# Altium footprint library QFP80-20X20_P64.PcbLib: 3 footprints
Each footprint in its own frame and in the unit in brackets; x right, y up, seen from the top. Pads: shape width x height; smd on the part's side, far side on the other; paste and mask are expansions set on the pad; w line width, h text height; cw(c..) or ccw(c..) is an arc to the next point about the centre after c.
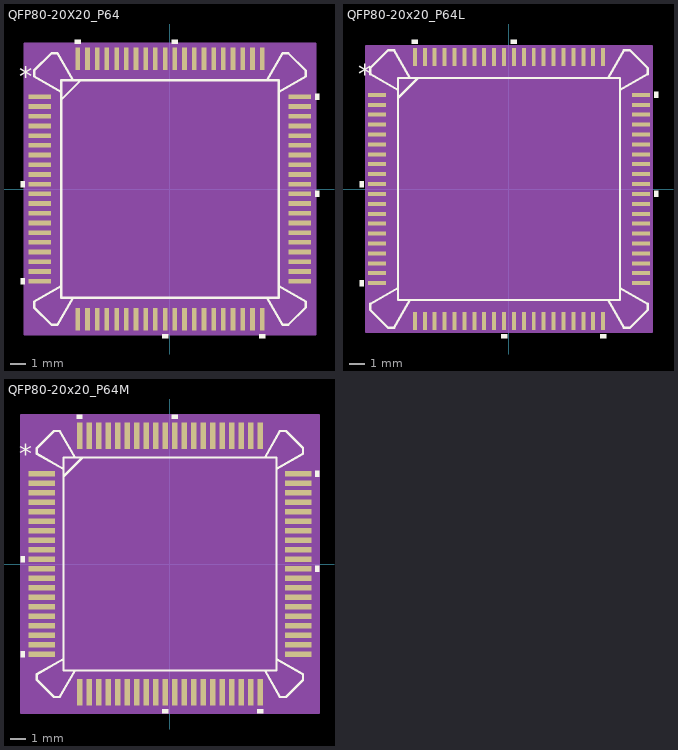
[diagram p0: the footprints below, top view; thin cyan lines are the x and y axes]

## QFP80-20X20_P64 [mil]
pads (80):
  rect 58x12 smd: 1(-335,237.5) 2(-335,212.5) 3(-335,187.5) 4(-335,162.5) 5(-335,137.5) 6(-335,112.5) 7(-335,87.5) 8(-335,62.5) 9(-335,37.5) 10(-335,12.5) 11(-335,-12.5) 12(-335,-37.5) 13(-335,-62.5) 14(-335,-87.5) 15(-335,-112.5) 16(-335,-137.5) 17(-335,-162.5) 18(-335,-187.5) 19(-335,-212.5) 20(-335,-237.5) 41(335,-237.5) 42(335,-212.5) 43(335,-187.5) 44(335,-162.5) 45(335,-137.5) 46(335,-112.5) 47(335,-87.5) 48(335,-62.5) 49(335,-37.5) 50(335,-12.5) 51(335,12.5) 52(335,37.5) 53(335,62.5) 54(335,87.5) 55(335,112.5) 56(335,137.5) 57(335,162.5) 58(335,187.5) 59(335,212.5) 60(335,237.5)
  rect 12x58 smd: 21(-237.5,-335) 22(-212.5,-335) 23(-187.5,-335) 24(-162.5,-335) 25(-137.5,-335) 26(-112.5,-335) 27(-87.5,-335) 28(-62.5,-335) 29(-37.5,-335) 30(-12.5,-335) 31(12.5,-335) 32(37.5,-335) 33(62.5,-335) 34(87.5,-335) 35(112.5,-335) 36(137.5,-335) 37(162.5,-335) 38(187.5,-335) 39(212.5,-335) 40(237.5,-335) 61(237.5,335) 62(212.5,335) 63(187.5,335) 64(162.5,335) 65(137.5,335) 66(112.5,335) 67(87.5,335) 68(62.5,335) 69(37.5,335) 70(12.5,335) 71(-12.5,335) 72(-37.5,335) 73(-62.5,335) 74(-87.5,335) 75(-112.5,335) 76(-137.5,335) 77(-162.5,335) 78(-187.5,335) 79(-212.5,335) 80(-237.5,335)
Top Overlay:
  region: -374,20 -384,20 -384,5 -374,5
  region: -374,-230 -384,-230 -384,-245 -374,-245
  region: -5,-374 -20,-374 -20,-384 -5,-384
  region: 245,-374 230,-374 230,-384 245,-384
  region: 374,-5 384,-5 384,-20 374,-20
  region: 374,245 384,245 384,230 374,230
  region: 20,374 5,374 5,384 20,384
  region: -230,374 -245,374 -245,384 -230,384
  lines w6: -280,-250 -350,-290 -350,-305 -305,-350 -290,-350 -250,-280 ; -280,230 -230,280 ; -280,250 -350,290 -350,305 -305,350 -290,350 -250,280 ; 250,-280 290,-350 305,-350 350,-305 350,-290 280,-250 ; 250,280 290,350 305,350 350,305 350,290 280,250 ; -280,-280 280,-280 280,280 -280,280 -280,-280
  text "*" at -389,265 h50
Mechanical 13:
  drawing of 345 lines, arcs and shapes, not listed
  text "*" at -389,265 h50
Mechanical 15:
  region: 374,-374 -374,-374 -374,374 374,374
  lines w6: -374,-374 -374,374 374,374 374,-374 -374,-374
3D body: height 10, standoff 0, extent 0,0 10,10

## QFP80-20x20_P64L [mil]
pads (80):
  rect 46x10 smd: 1(-333,237.5) 2(-333,212.5) 3(-333,187.5) 4(-333,162.5) 5(-333,137.5) 6(-333,112.5) 7(-333,87.5) 8(-333,62.5) 9(-333,37.5) 10(-333,12.5) 11(-333,-12.5) 12(-333,-37.5) 13(-333,-62.5) 14(-333,-87.5) 15(-333,-112.5) 16(-333,-137.5) 17(-333,-162.5) 18(-333,-187.5) 19(-333,-212.5) 20(-333,-237.5) 41(333,-237.5) 42(333,-212.5) 43(333,-187.5) 44(333,-162.5) 45(333,-137.5) 46(333,-112.5) 47(333,-87.5) 48(333,-62.5) 49(333,-37.5) 50(333,-12.5) 51(333,12.5) 52(333,37.5) 53(333,62.5) 54(333,87.5) 55(333,112.5) 56(333,137.5) 57(333,162.5) 58(333,187.5) 59(333,212.5) 60(333,237.5)
  rect 10x46 smd: 21(-237.5,-333) 22(-212.5,-333) 23(-187.5,-333) 24(-162.5,-333) 25(-137.5,-333) 26(-112.5,-333) 27(-87.5,-333) 28(-62.5,-333) 29(-37.5,-333) 30(-12.5,-333) 31(12.5,-333) 32(37.5,-333) 33(62.5,-333) 34(87.5,-333) 35(112.5,-333) 36(137.5,-333) 37(162.5,-333) 38(187.5,-333) 39(212.5,-333) 40(237.5,-333) 61(237.5,333) 62(212.5,333) 63(187.5,333) 64(162.5,333) 65(137.5,333) 66(112.5,333) 67(87.5,333) 68(62.5,333) 69(37.5,333) 70(12.5,333) 71(-12.5,333) 72(-37.5,333) 73(-62.5,333) 74(-87.5,333) 75(-112.5,333) 76(-137.5,333) 77(-162.5,333) 78(-187.5,333) 79(-212.5,333) 80(-237.5,333)
Top Overlay:
  region: -366,20 -376,20 -376,5 -366,5
  region: -366,-230 -376,-230 -376,-245 -366,-245
  region: -5,-366 -20,-366 -20,-376 -5,-376
  region: 245,-366 230,-366 230,-376 245,-376
  region: 366,-5 376,-5 376,-20 366,-20
  region: 366,245 376,245 376,230 366,230
  region: 20,366 5,366 5,376 20,376
  region: -230,366 -245,366 -245,376 -230,376
  lines w6: -280,-250 -350,-290 -350,-305 -305,-350 -290,-350 -250,-280 ; -280,230 -230,280 ; -280,250 -350,290 -350,305 -305,350 -290,350 -250,280 ; 250,-280 290,-350 305,-350 350,-305 350,-290 280,-250 ; 250,280 290,350 305,350 350,305 350,290 280,250 ; -280,-280 280,-280 280,280 -280,280 -280,-280
  text "*" at -381,265 h50
Mechanical 13:
  drawing of 345 lines, arcs and shapes, not listed
  text "*" at -381,265 h50
Mechanical 15:
  region: 360,-360 -360,-360 -360,360 360,360
  lines w6: -360,-360 -360,360 360,360 360,-360 -360,-360
3D body: height 10, standoff 0, extent 0,0 10,10

## QFP80-20x20_P64M [mil]
pads (80):
  rect 70x14 smd mask+4: 1(-337,237.5) 2(-337,212.5) 3(-337,187.5) 4(-337,162.5) 5(-337,137.5) 6(-337,112.5) 7(-337,87.5) 8(-337,62.5) 9(-337,37.5) 10(-337,12.5) 11(-337,-12.5) 12(-337,-37.5) 13(-337,-62.5) 14(-337,-87.5) 15(-337,-112.5) 16(-337,-137.5) 17(-337,-162.5) 18(-337,-187.5) 19(-337,-212.5) 20(-337,-237.5) 41(337,-237.5) 42(337,-212.5) 43(337,-187.5) 44(337,-162.5) 45(337,-137.5) 46(337,-112.5) 47(337,-87.5) 48(337,-62.5) 49(337,-37.5) 50(337,-12.5) 51(337,12.5) 52(337,37.5) 53(337,62.5) 54(337,87.5) 55(337,112.5) 56(337,137.5) 57(337,162.5) 58(337,187.5) 59(337,212.5) 60(337,237.5)
  rect 14x70 smd mask+4: 21(-237.5,-337) 22(-212.5,-337) 23(-187.5,-337) 24(-162.5,-337) 25(-137.5,-337) 26(-112.5,-337) 27(-87.5,-337) 28(-62.5,-337) 29(-37.5,-337) 30(-12.5,-337) 31(12.5,-337) 32(37.5,-337) 33(62.5,-337) 34(87.5,-337) 35(112.5,-337) 36(137.5,-337) 37(162.5,-337) 38(187.5,-337) 39(212.5,-337) 40(237.5,-337) 61(237.5,337) 62(212.5,337) 63(187.5,337) 64(162.5,337) 65(137.5,337) 66(112.5,337) 67(87.5,337) 68(62.5,337) 69(37.5,337) 70(12.5,337) 71(-12.5,337) 72(-37.5,337) 73(-62.5,337) 74(-87.5,337) 75(-112.5,337) 76(-137.5,337) 77(-162.5,337) 78(-187.5,337) 79(-212.5,337) 80(-237.5,337)
Top Overlay:
  region: -230,382 -245,382 -245,392 -230,392
  region: 20,382 5,382 5,392 20,392
  region: 382,245 392,245 392,230 382,230
  region: 382,-5 392,-5 392,-20 382,-20
  region: 245,-382 230,-382 230,-392 245,-392
  region: -5,-382 -20,-382 -20,-392 -5,-392
  region: -382,-230 -392,-230 -392,-245 -382,-245
  region: -382,20 -392,20 -392,5 -382,5
  lines w6: -280,-250 -350,-290 -350,-305 -305,-350 -290,-350 -250,-280 ; -280,230 -230,280 ; -280,250 -350,290 -350,305 -305,350 -290,350 -250,280 ; 250,-280 290,-350 305,-350 350,-305 350,-290 280,-250 ; 250,280 290,350 305,350 350,305 350,290 280,250 ; -280,-280 -280,280 280,280 280,-280 -280,-280
  text "*" at -397,265 h50
Mechanical 13:
  drawing of 345 lines, arcs and shapes, not listed
  text "*" at -397,265 h50
Mechanical 15:
  region: 392,-392 -392,-392 -392,392 392,392
  lines w6: -392,-392 392,-392 392,392 -392,392 -392,-392
3D body: height 10, standoff 0, extent 0,0 10,10